# Altium schematic symbol library kmilo17pet-TI_LDO_400_7500.SchLib: 1409 symbols (part 36 of 60)
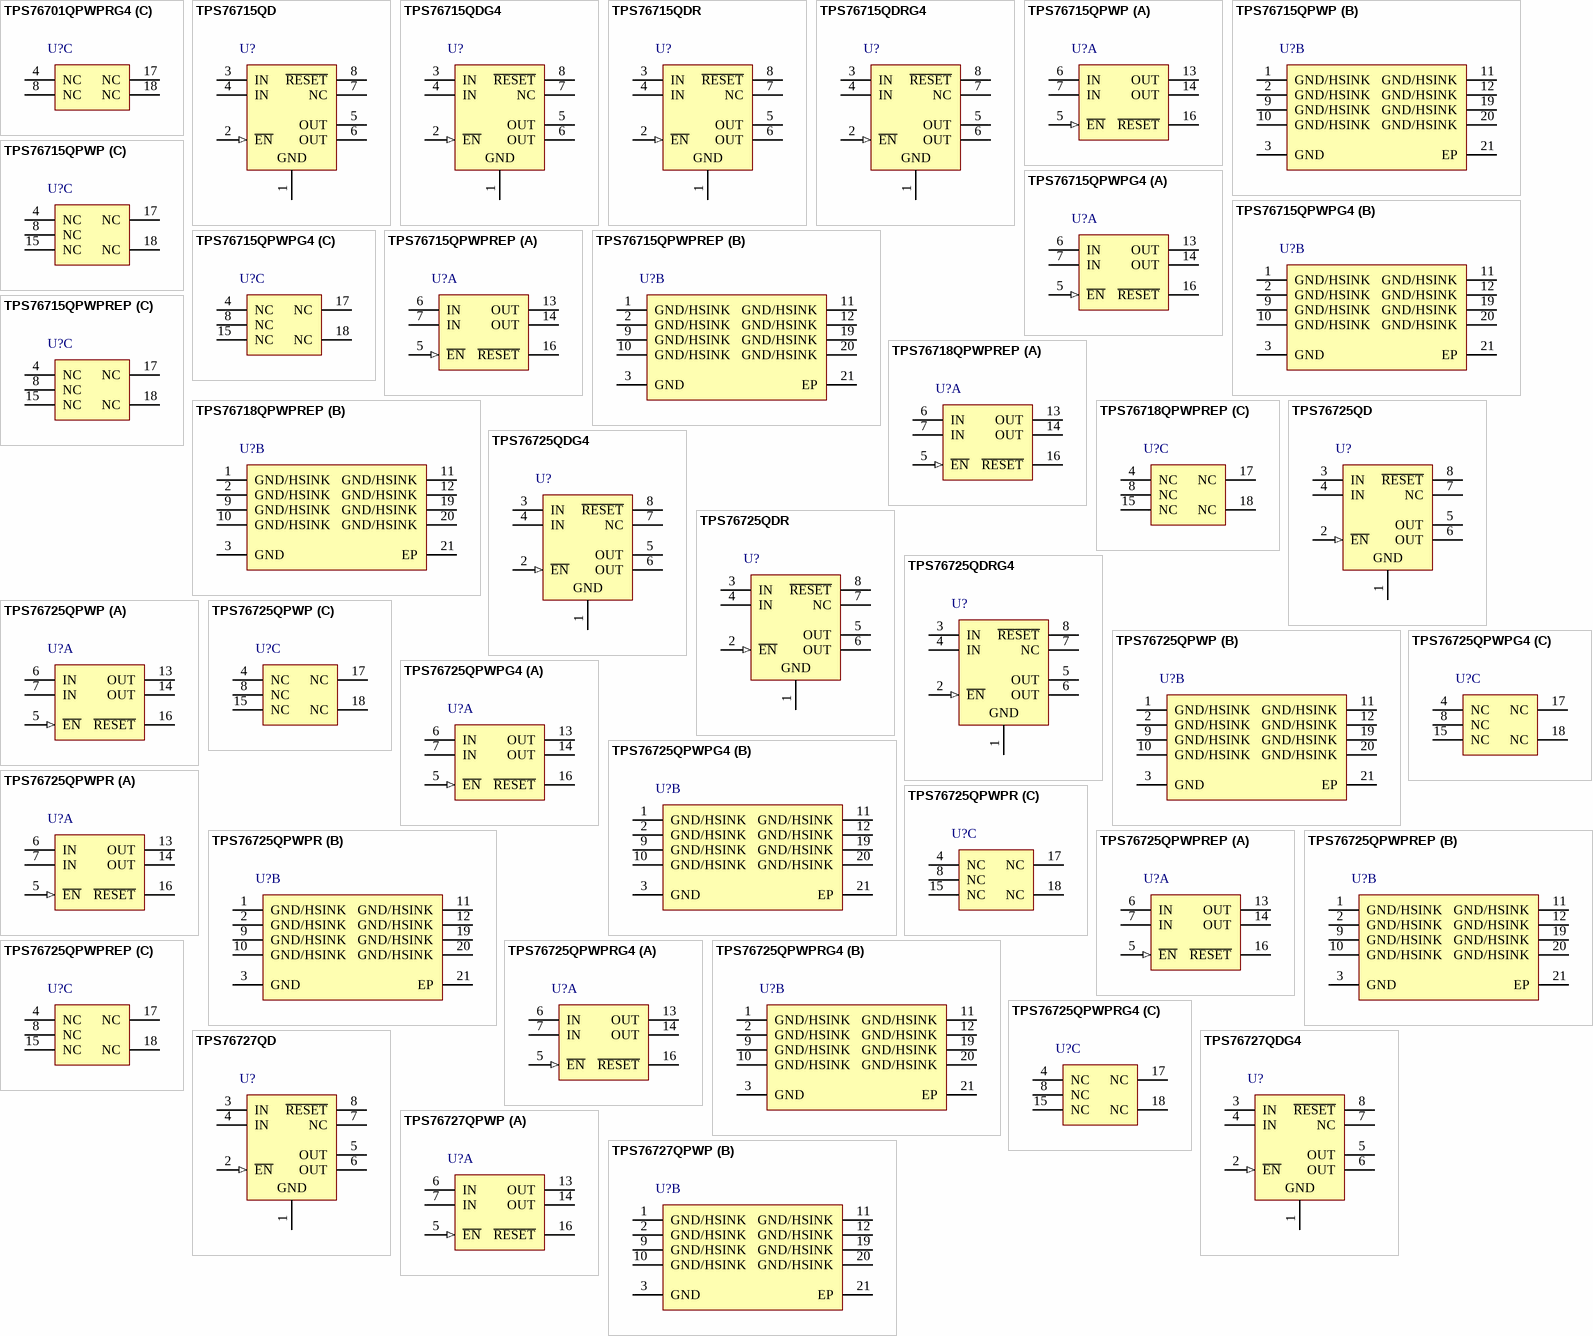
[diagram p85: symbols TPS76701QPWPRG4 to TPS76727QPWP]

## TPS76725QDR
designator U?
Single Output Fast Transient Response LDO, 1 A, Fixed 2.5 V Output, 2.7 to 10 V Input, with Low IQ, 8-pin SOIC (D), -40 to 125 degC, Green (RoHS & no Sb/Br); Manufacturer: Texas Instruments; PartNumber: TPS76725QDR; Accuracy(%): 2; Fixed Output Options(V): 2.5; Iout(Max)(A): 1; Iq(Typ)(mA): 0.08; SubFamily: Single Channel LDO; Vdo(Typ)(mV): 230; Vin(Max)(V): 10; Vin(Min)(V): 2.7; DatasheetVersion: SLVS208I; PackageVersion: 4040047-3/M; PackageReference: D8; PackageDescription: 8-Pin Plastic Small Outline, Body 4.9 x 3.9 mm, Pitch 1.27 mm; Supplier 1: Digi-Key; Supplier Part Number 1: TPS76725QDR-ND; Supplier 2: Newark; Supplier Part Number 2: 77C1082; Supplier 3: Mouser; Supplier Part Number 3: 595-TPS76725QDR; Eco-Plan: Green (RoHS & no Sb/Br); Vout Adj(Max)(V): 2.5; Vout Adj(Min)(V): 2.5; Mounting Technology: Surface Mount; Code_JEDEC: MS-012; ComponentLink1Description: Manufacturer URL; ComponentLink1URL: http://www.ti.com/; ComponentLink2Description: Datasheet; ComponentLink2URL: http://www.ti.com/general/docs/lit/getliterature.tsp?genericPartNumber=TPS76725&fileType=pdf; ComponentLink3Description: Package Specification; ComponentLink3URL: http://www.ti.com/litv/pdf/msoi002j
footprint TI-D8_N (SOIC, 8-Leads, Body 4.9x3.9mm, Pitch 1.27mm, IPC Medium Density)
footprint TI-D8_L (SOIC, 8-Leads, Body 4.9x3.9mm, Pitch 1.27mm, IPC High Density)
footprint TI-D8_M (SOIC, 8-Leads, Body 4.9x3.9mm, Pitch 1.27mm, IPC Low Density)
pins: 1 GND (power) "Regulator ground", 2 ~{EN} (in) "Enable input", 3 IN (power) "Input voltage", 4 IN (power) "Input voltage", 5 OUT (power) "Regulated output voltage", 6 OUT (power) "Regulated output voltage", 7 NC "No internal connection", 8 ~{RESET} (hiz) "R\E\S\E\T\ output"

## TPS76725QDRG4
designator U?
Single Output Fast Transient Response LDO, 1 A, Fixed 2.5 V Output, 2.7 to 10 V Input, with Low IQ, 8-pin SOIC (D), -40 to 125 degC, Green (RoHS & no Sb/Br); Manufacturer: Texas Instruments; PartNumber: TPS76725QDRG4; Accuracy(%): 2; Fixed Output Options(V): 2.5; Iout(Max)(A): 1; Iq(Typ)(mA): 0.08; SubFamily: Single Channel LDO; Vdo(Typ)(mV): 230; Vin(Max)(V): 10; Vin(Min)(V): 2.7; DatasheetVersion: SLVS208I; PackageVersion: 4040047-3/M; PackageReference: D8; PackageDescription: 8-Pin Plastic Small Outline, Body 4.9 x 3.9 mm, Pitch 1.27 mm; Supplier 1: Digi-Key; Supplier Part Number 1: TPS76725QDRG4-ND; Supplier 2: Mouser; Supplier Part Number 2: 595-TPS76725QDRG4; Eco-Plan: Green (RoHS & no Sb/Br); Vout Adj(Max)(V): 2.5; Vout Adj(Min)(V): 2.5; Mounting Technology: Surface Mount; Code_JEDEC: MS-012; ComponentLink1Description: Manufacturer URL; ComponentLink1URL: http://www.ti.com/; ComponentLink2Description: Datasheet; ComponentLink2URL: http://www.ti.com/general/docs/lit/getliterature.tsp?genericPartNumber=TPS76725&fileType=pdf; ComponentLink3Description: Package Specification; ComponentLink3URL: http://www.ti.com/litv/pdf/msoi002j
footprint TI-D8_N (SOIC, 8-Leads, Body 4.9x3.9mm, Pitch 1.27mm, IPC Medium Density)
footprint TI-D8_L (SOIC, 8-Leads, Body 4.9x3.9mm, Pitch 1.27mm, IPC High Density)
footprint TI-D8_M (SOIC, 8-Leads, Body 4.9x3.9mm, Pitch 1.27mm, IPC Low Density)
pins: 1 GND (power) "Regulator ground", 2 ~{EN} (in) "Enable input", 3 IN (power) "Input voltage", 4 IN (power) "Input voltage", 5 OUT (power) "Regulated output voltage", 6 OUT (power) "Regulated output voltage", 7 NC "No internal connection", 8 ~{RESET} (hiz) "R\E\S\E\T\ output"

## TPS76725QPWP
designator U?
Single Output Fast Transient Response LDO, 1 A, Fixed 2.5 V Output, 2.7 to 10 V Input, with Low IQ, 20-pin HTSSOP (PWP), -40 to 125 degC, Green (RoHS & no Sb/Br); Manufacturer: Texas Instruments; PartNumber: TPS76725QPWP; Accuracy(%): 2; Fixed Output Options(V): 2.5; Iout(Max)(A): 1; Iq(Typ)(mA): 0.08; SubFamily: Single Channel LDO; Vdo(Typ)(mV): 230; Vin(Max)(V): 10; Vin(Min)(V): 2.7; DatasheetVersion: SLVS208I; PackageVersion: 4073225-4/I; PackageReference: PWP20-2980X2000TP; PackageDescription: 20-Pin Plastic Small Outline, Body 4.4 x 6.5 mm, Pitch 0.65 mm; Supplier 1: Digi-Key; Supplier Part Number 1: 296-8079-5-ND; Supplier 2: Mouser; Supplier Part Number 2: 595-TPS76725QPWP; Eco-Plan: Green (RoHS & no Sb/Br); Vout Adj(Max)(V): 2.5; Vout Adj(Min)(V): 2.5; Mounting Technology: Surface Mount; Code_JEDEC: MO-153; ComponentLink1Description: Manufacturer URL; ComponentLink1URL: http://www.ti.com/; ComponentLink2Description: Datasheet; ComponentLink2URL: http://www.ti.com/general/docs/lit/getliterature.tsp?genericPartNumber=TPS76725&fileType=pdf; ComponentLink3Description: Package Specification; ComponentLink3URL: http://www.ti.com/litv/pdf/mhts001g
footprint TI-PWP20-2980X2000TP_N (SOP, 20-Leads, Body 6.5x4.4mm, Pitch 0.65mm, Thermal Pad 2.975x2 mm, IPC Medium Density)
footprint TI-PWP20-2980X2000TP_L (SOP, 20-Leads, Body 6.5x4.4mm, Pitch 0.65mm, Thermal Pad 2.975x2 mm, IPC High Density)
footprint TI-PWP20-2980X2000TP_M (SOP, 20-Leads, Body 6.5x4.4mm, Pitch 0.65mm, Thermal Pad 2.975x2 mm, IPC Low Density)
part A pins: 5 ~{EN} (in) "Enable input", 6 IN (power) "Input voltage", 7 IN (power) "Input voltage", 13 OUT (power) "Regulated output voltage", 14 OUT (power) "Regulated output voltage", 16 ~{RESET} (hiz) "R\E\S\E\T\ output."
part B pins: 1 GND/HSINK (power) "Ground/heatsink", 2 GND/HSINK (power) "Ground/heatsink", 3 GND (power) "Regulator ground", 9 GND/HSINK (power) "Ground/heatsink", 10 GND/HSINK (power) "Ground/heatsink", 11 GND/HSINK (power) "Ground/heatsink", 12 GND/HSINK (power) "Ground/heatsink", 19 GND/HSINK (power) "Ground/heatsink", 20 GND/HSINK (power) "Ground/heatsink", 21 EP "Exposed Thermal Pad"
part C pins: 4 NC "No connect", 8 NC "No connect", 15 NC "No connect", 17 NC "No connect", 18 NC "No connect"

## TPS76725QPWPG4
designator U?
Single Output Fast Transient Response LDO, 1 A, Fixed 2.5 V Output, 2.7 to 10 V Input, with Low IQ, 20-pin HTSSOP (PWP), -40 to 125 degC, Green (RoHS & no Sb/Br); Manufacturer: Texas Instruments; PartNumber: TPS76725QPWPG4; Accuracy(%): 2; Fixed Output Options(V): 2.5; Iout(Max)(A): 1; Iq(Typ)(mA): 0.08; SubFamily: Single Channel LDO; Vdo(Typ)(mV): 230; Vin(Max)(V): 10; Vin(Min)(V): 2.7; DatasheetVersion: SLVS208I; PackageVersion: 4073225-4/I; PackageReference: PWP20-2980X2000TP; PackageDescription: 20-Pin Plastic Small Outline, Body 4.4 x 6.5 mm, Pitch 0.65 mm; Supplier 1: Digi-Key; Supplier Part Number 1: TPS76725QPWPG4-ND; Supplier 2: Mouser; Supplier Part Number 2: 595-TPS76725QPWPG4; Eco-Plan: Green (RoHS & no Sb/Br); Vout Adj(Max)(V): 2.5; Vout Adj(Min)(V): 2.5; Mounting Technology: Surface Mount; Code_JEDEC: MO-153; ComponentLink1Description: Manufacturer URL; ComponentLink1URL: http://www.ti.com/; ComponentLink2Description: Datasheet; ComponentLink2URL: http://www.ti.com/general/docs/lit/getliterature.tsp?genericPartNumber=TPS76725&fileType=pdf; ComponentLink3Description: Package Specification; ComponentLink3URL: http://www.ti.com/litv/pdf/mhts001g
footprint TI-PWP20-2980X2000TP_N (SOP, 20-Leads, Body 6.5x4.4mm, Pitch 0.65mm, Thermal Pad 2.975x2 mm, IPC Medium Density)
footprint TI-PWP20-2980X2000TP_L (SOP, 20-Leads, Body 6.5x4.4mm, Pitch 0.65mm, Thermal Pad 2.975x2 mm, IPC High Density)
footprint TI-PWP20-2980X2000TP_M (SOP, 20-Leads, Body 6.5x4.4mm, Pitch 0.65mm, Thermal Pad 2.975x2 mm, IPC Low Density)
part A pins: 5 ~{EN} (in) "Enable input", 6 IN (power) "Input voltage", 7 IN (power) "Input voltage", 13 OUT (power) "Regulated output voltage", 14 OUT (power) "Regulated output voltage", 16 ~{RESET} (hiz) "R\E\S\E\T\ output."
part B pins: 1 GND/HSINK (power) "Ground/heatsink", 2 GND/HSINK (power) "Ground/heatsink", 3 GND (power) "Regulator ground", 9 GND/HSINK (power) "Ground/heatsink", 10 GND/HSINK (power) "Ground/heatsink", 11 GND/HSINK (power) "Ground/heatsink", 12 GND/HSINK (power) "Ground/heatsink", 19 GND/HSINK (power) "Ground/heatsink", 20 GND/HSINK (power) "Ground/heatsink", 21 EP "Exposed Thermal Pad"
part C pins: 4 NC "No connect", 8 NC "No connect", 15 NC "No connect", 17 NC "No connect", 18 NC "No connect"

## TPS76725QPWPR
designator U?
Single Output Fast Transient Response LDO, 1 A, Fixed 2.5 V Output, 2.7 to 10 V Input, with Low IQ, 20-pin HTSSOP (PWP), -40 to 125 degC, Green (RoHS & no Sb/Br); Manufacturer: Texas Instruments; PartNumber: TPS76725QPWPR; Accuracy(%): 2; Fixed Output Options(V): 2.5; Iout(Max)(A): 1; Iq(Typ)(mA): 0.08; SubFamily: Single Channel LDO; Vdo(Typ)(mV): 230; Vin(Max)(V): 10; Vin(Min)(V): 2.7; DatasheetVersion: SLVS208I; PackageVersion: 4073225-4/I; PackageReference: PWP20-2980X2000TP; PackageDescription: 20-Pin Plastic Small Outline, Body 4.4 x 6.5 mm, Pitch 0.65 mm; Supplier 1: Digi-Key; Supplier Part Number 1: TPS76725QPWPR-ND; Supplier 2: Mouser; Supplier Part Number 2: 595-TPS76725QPWPR; Eco-Plan: Green (RoHS & no Sb/Br); Vout Adj(Max)(V): 2.5; Vout Adj(Min)(V): 2.5; Mounting Technology: Surface Mount; Code_JEDEC: MO-153; ComponentLink1Description: Manufacturer URL; ComponentLink1URL: http://www.ti.com/; ComponentLink2Description: Datasheet; ComponentLink2URL: http://www.ti.com/general/docs/lit/getliterature.tsp?genericPartNumber=TPS76725&fileType=pdf; ComponentLink3Description: Package Specification; ComponentLink3URL: http://www.ti.com/litv/pdf/mhts001g
footprint TI-PWP20-2980X2000TP_N (SOP, 20-Leads, Body 6.5x4.4mm, Pitch 0.65mm, Thermal Pad 2.975x2 mm, IPC Medium Density)
footprint TI-PWP20-2980X2000TP_L (SOP, 20-Leads, Body 6.5x4.4mm, Pitch 0.65mm, Thermal Pad 2.975x2 mm, IPC High Density)
footprint TI-PWP20-2980X2000TP_M (SOP, 20-Leads, Body 6.5x4.4mm, Pitch 0.65mm, Thermal Pad 2.975x2 mm, IPC Low Density)
part A pins: 5 ~{EN} (in) "Enable input", 6 IN (power) "Input voltage", 7 IN (power) "Input voltage", 13 OUT (power) "Regulated output voltage", 14 OUT (power) "Regulated output voltage", 16 ~{RESET} (hiz) "R\E\S\E\T\ output."
part B pins: 1 GND/HSINK (power) "Ground/heatsink", 2 GND/HSINK (power) "Ground/heatsink", 3 GND (power) "Regulator ground", 9 GND/HSINK (power) "Ground/heatsink", 10 GND/HSINK (power) "Ground/heatsink", 11 GND/HSINK (power) "Ground/heatsink", 12 GND/HSINK (power) "Ground/heatsink", 19 GND/HSINK (power) "Ground/heatsink", 20 GND/HSINK (power) "Ground/heatsink", 21 EP "Exposed Thermal Pad"
part C pins: 4 NC "No connect", 8 NC "No connect", 15 NC "No connect", 17 NC "No connect", 18 NC "No connect"

## TPS76725QPWPREP
designator U?
Single Output Fast Transient Response LDO, 1 A, Fixed 2.5 V Output, 2.7 to 10 V Input, 20-pin HTSSOP (PWP), -40 to 125 degC, Green (RoHS & no Sb/Br); Manufacturer: Texas Instruments; PartNumber: TPS76725QPWPREP; Accuracy(%): 2; Fixed Output Options(V): 2.5; Iout(Max)(A): 1; Iq(Typ)(mA): 0.08; SubFamily: Single Channel LDO; Vdo(Typ)(mV): 230; Vin(Max)(V): 10; Vin(Min)(V): 2.7; DatasheetVersion: SGLS157; PackageVersion: 4073225-4/I; PackageReference: PWP20-2980X2000TP; PackageDescription: 20-Pin Plastic Small Outline, Body 4.4 x 6.5 mm, Pitch 0.65 mm; Supplier 1: Digi-Key; Supplier Part Number 1: 296-18157-2-ND; Supplier 2: Digi-Key; Supplier Part Number 2: 296-18157-1-ND; Supplier 3: Digi-Key; Supplier Part Number 3: 296-18157-6-ND; Supplier 4: Newark; Supplier Part Number 4: 46M1178; Supplier 5: Mouser; Supplier Part Number 5: 595-TPS76725QPWPREP; Eco-Plan: Green (RoHS & no Sb/Br); Vout Adj(Max)(V): 2.5; Vout Adj(Min)(V): 2.5; Mounting Technology: Surface Mount; Code_JEDEC: MO-153; ComponentLink1Description: Manufacturer URL; ComponentLink1URL: http://www.ti.com/; ComponentLink2Description: Datasheet; ComponentLink2URL: http://www.ti.com/general/docs/lit/getliterature.tsp?genericPartNumber=TPS76725-EP&fileType=pdf; ComponentLink3Description: Package Specification; ComponentLink3URL: http://www.ti.com/litv/pdf/mhts001g
footprint TI-PWP20-2980X2000TP_N (SOP, 20-Leads, Body 6.5x4.4mm, Pitch 0.65mm, Thermal Pad 2.975x2 mm, IPC Medium Density)
footprint TI-PWP20-2980X2000TP_L (SOP, 20-Leads, Body 6.5x4.4mm, Pitch 0.65mm, Thermal Pad 2.975x2 mm, IPC High Density)
footprint TI-PWP20-2980X2000TP_M (SOP, 20-Leads, Body 6.5x4.4mm, Pitch 0.65mm, Thermal Pad 2.975x2 mm, IPC Low Density)
part A pins: 5 ~{EN} (in) "Enable input", 6 IN (power) "Input voltage", 7 IN (power) "Input voltage", 13 OUT (power) "Regulated output voltage", 14 OUT (power) "Regulated output voltage", 16 ~{RESET} (hiz) "R\E\S\E\T\ output."
part B pins: 1 GND/HSINK (power) "Ground/heatsink", 2 GND/HSINK (power) "Ground/heatsink", 3 GND (power) "Regulator ground", 9 GND/HSINK (power) "Ground/heatsink", 10 GND/HSINK (power) "Ground/heatsink", 11 GND/HSINK (power) "Ground/heatsink", 12 GND/HSINK (power) "Ground/heatsink", 19 GND/HSINK (power) "Ground/heatsink", 20 GND/HSINK (power) "Ground/heatsink", 21 EP "Exposed Thermal Pad"
part C pins: 4 NC "No connect", 8 NC "No connect", 15 NC "No connect", 17 NC "No connect", 18 NC "No connect"

## TPS76725QPWPRG4
designator U?
Single Output Fast Transient Response LDO, 1 A, Fixed 2.5 V Output, 2.7 to 10 V Input, with Low IQ, 20-pin HTSSOP (PWP), -40 to 125 degC, Green (RoHS & no Sb/Br); Manufacturer: Texas Instruments; PartNumber: TPS76725QPWPRG4; Accuracy(%): 2; Fixed Output Options(V): 2.5; Iout(Max)(A): 1; Iq(Typ)(mA): 0.08; SubFamily: Single Channel LDO; Vdo(Typ)(mV): 230; Vin(Max)(V): 10; Vin(Min)(V): 2.7; DatasheetVersion: SLVS208I; PackageVersion: 4073225-4/I; PackageReference: PWP20-2980X2000TP; PackageDescription: 20-Pin Plastic Small Outline, Body 4.4 x 6.5 mm, Pitch 0.65 mm; Supplier 1: Digi-Key; Supplier Part Number 1: TPS76725QPWPRG4-ND; Supplier 2: Mouser; Supplier Part Number 2: 595-TPS76725QPWPRG4; Eco-Plan: Green (RoHS & no Sb/Br); Vout Adj(Max)(V): 2.5; Vout Adj(Min)(V): 2.5; Mounting Technology: Surface Mount; Code_JEDEC: MO-153; ComponentLink1Description: Manufacturer URL; ComponentLink1URL: http://www.ti.com/; ComponentLink2Description: Datasheet; ComponentLink2URL: http://www.ti.com/general/docs/lit/getliterature.tsp?genericPartNumber=TPS76725&fileType=pdf; ComponentLink3Description: Package Specification; ComponentLink3URL: http://www.ti.com/litv/pdf/mhts001g
footprint TI-PWP20-2980X2000TP_N (SOP, 20-Leads, Body 6.5x4.4mm, Pitch 0.65mm, Thermal Pad 2.975x2 mm, IPC Medium Density)
footprint TI-PWP20-2980X2000TP_L (SOP, 20-Leads, Body 6.5x4.4mm, Pitch 0.65mm, Thermal Pad 2.975x2 mm, IPC High Density)
footprint TI-PWP20-2980X2000TP_M (SOP, 20-Leads, Body 6.5x4.4mm, Pitch 0.65mm, Thermal Pad 2.975x2 mm, IPC Low Density)
part A pins: 5 ~{EN} (in) "Enable input", 6 IN (power) "Input voltage", 7 IN (power) "Input voltage", 13 OUT (power) "Regulated output voltage", 14 OUT (power) "Regulated output voltage", 16 ~{RESET} (hiz) "R\E\S\E\T\ output."
part B pins: 1 GND/HSINK (power) "Ground/heatsink", 2 GND/HSINK (power) "Ground/heatsink", 3 GND (power) "Regulator ground", 9 GND/HSINK (power) "Ground/heatsink", 10 GND/HSINK (power) "Ground/heatsink", 11 GND/HSINK (power) "Ground/heatsink", 12 GND/HSINK (power) "Ground/heatsink", 19 GND/HSINK (power) "Ground/heatsink", 20 GND/HSINK (power) "Ground/heatsink", 21 EP "Exposed Thermal Pad"
part C pins: 4 NC "No connect", 8 NC "No connect", 15 NC "No connect", 17 NC "No connect", 18 NC "No connect"

## TPS76727QD
designator U?
Single Output Fast Transient Response LDO, 1 A, Fixed 2.7 V Output, 2.7 to 10 V Input, with Low IQ, 8-pin SOIC (D), -40 to 125 degC, Green (RoHS & no Sb/Br); Manufacturer: Texas Instruments; PartNumber: TPS76727QD; Accuracy(%): 2; Fixed Output Options(V): 2.7; Iout(Max)(A): 1; Iq(Typ)(mA): 0.08; SubFamily: Single Channel LDO; Vdo(Typ)(mV): 230; Vin(Max)(V): 10; DatasheetVersion: SLVS208I; PackageVersion: 4040047-3/M; PackageReference: D8; PackageDescription: 8-Pin Plastic Small Outline, Body 4.9 x 3.9 mm, Pitch 1.27 mm; Supplier 1: Digi-Key; Supplier Part Number 1: 296-2735-5-ND; Supplier 2: Mouser; Supplier Part Number 2: 595-TPS76727QD; Eco-Plan: Green (RoHS & no Sb/Br); Vin(Min)(V): 2.7; Vout Adj(Max)(V): 2.7; Vout Adj(Min)(V): 2.7; Mounting Technology: Surface Mount; Code_JEDEC: MS-012; ComponentLink1Description: Manufacturer URL; ComponentLink1URL: http://www.ti.com/; ComponentLink2Description: Datasheet; ComponentLink2URL: http://www.ti.com/general/docs/lit/getliterature.tsp?genericPartNumber=TPS76727&fileType=pdf; ComponentLink3Description: Package Specification; ComponentLink3URL: http://www.ti.com/litv/pdf/msoi002j
footprint TI-D8_N (SOIC, 8-Leads, Body 4.9x3.9mm, Pitch 1.27mm, IPC Medium Density)
footprint TI-D8_L (SOIC, 8-Leads, Body 4.9x3.9mm, Pitch 1.27mm, IPC High Density)
footprint TI-D8_M (SOIC, 8-Leads, Body 4.9x3.9mm, Pitch 1.27mm, IPC Low Density)
pins: 1 GND (power) "Regulator ground", 2 ~{EN} (in) "Enable input", 3 IN (power) "Input voltage", 4 IN (power) "Input voltage", 5 OUT (power) "Regulated output voltage", 6 OUT (power) "Regulated output voltage", 7 NC "No internal connection", 8 ~{RESET} (hiz) "R\E\S\E\T\ output"

## TPS76727QDG4
designator U?
Single Output Fast Transient Response LDO, 1 A, Fixed 2.7 V Output, 2.7 to 10 V Input, with Low IQ, 8-pin SOIC (D), -40 to 125 degC, Green (RoHS & no Sb/Br); Manufacturer: Texas Instruments; PartNumber: TPS76727QDG4; Accuracy(%): 2; Fixed Output Options(V): 2.7; Iout(Max)(A): 1; Iq(Typ)(mA): 0.08; SubFamily: Single Channel LDO; Vdo(Typ)(mV): 230; Vin(Max)(V): 10; DatasheetVersion: SLVS208I; PackageVersion: 4040047-3/M; PackageReference: D8; PackageDescription: 8-Pin Plastic Small Outline, Body 4.9 x 3.9 mm, Pitch 1.27 mm; Supplier 1: Digi-Key; Supplier Part Number 1: TPS76727QDG4-ND; Supplier 2: Mouser; Supplier Part Number 2: 595-TPS76727QDG4; Eco-Plan: Green (RoHS & no Sb/Br); Vin(Min)(V): 2.7; Vout Adj(Max)(V): 2.7; Vout Adj(Min)(V): 2.7; Mounting Technology: Surface Mount; Code_JEDEC: MS-012; ComponentLink1Description: Manufacturer URL; ComponentLink1URL: http://www.ti.com/; ComponentLink2Description: Datasheet; ComponentLink2URL: http://www.ti.com/general/docs/lit/getliterature.tsp?genericPartNumber=TPS76727&fileType=pdf; ComponentLink3Description: Package Specification; ComponentLink3URL: http://www.ti.com/litv/pdf/msoi002j
footprint TI-D8_N (SOIC, 8-Leads, Body 4.9x3.9mm, Pitch 1.27mm, IPC Medium Density)
footprint TI-D8_L (SOIC, 8-Leads, Body 4.9x3.9mm, Pitch 1.27mm, IPC High Density)
footprint TI-D8_M (SOIC, 8-Leads, Body 4.9x3.9mm, Pitch 1.27mm, IPC Low Density)
pins: 1 GND (power) "Regulator ground", 2 ~{EN} (in) "Enable input", 3 IN (power) "Input voltage", 4 IN (power) "Input voltage", 5 OUT (power) "Regulated output voltage", 6 OUT (power) "Regulated output voltage", 7 NC "No internal connection", 8 ~{RESET} (hiz) "R\E\S\E\T\ output"

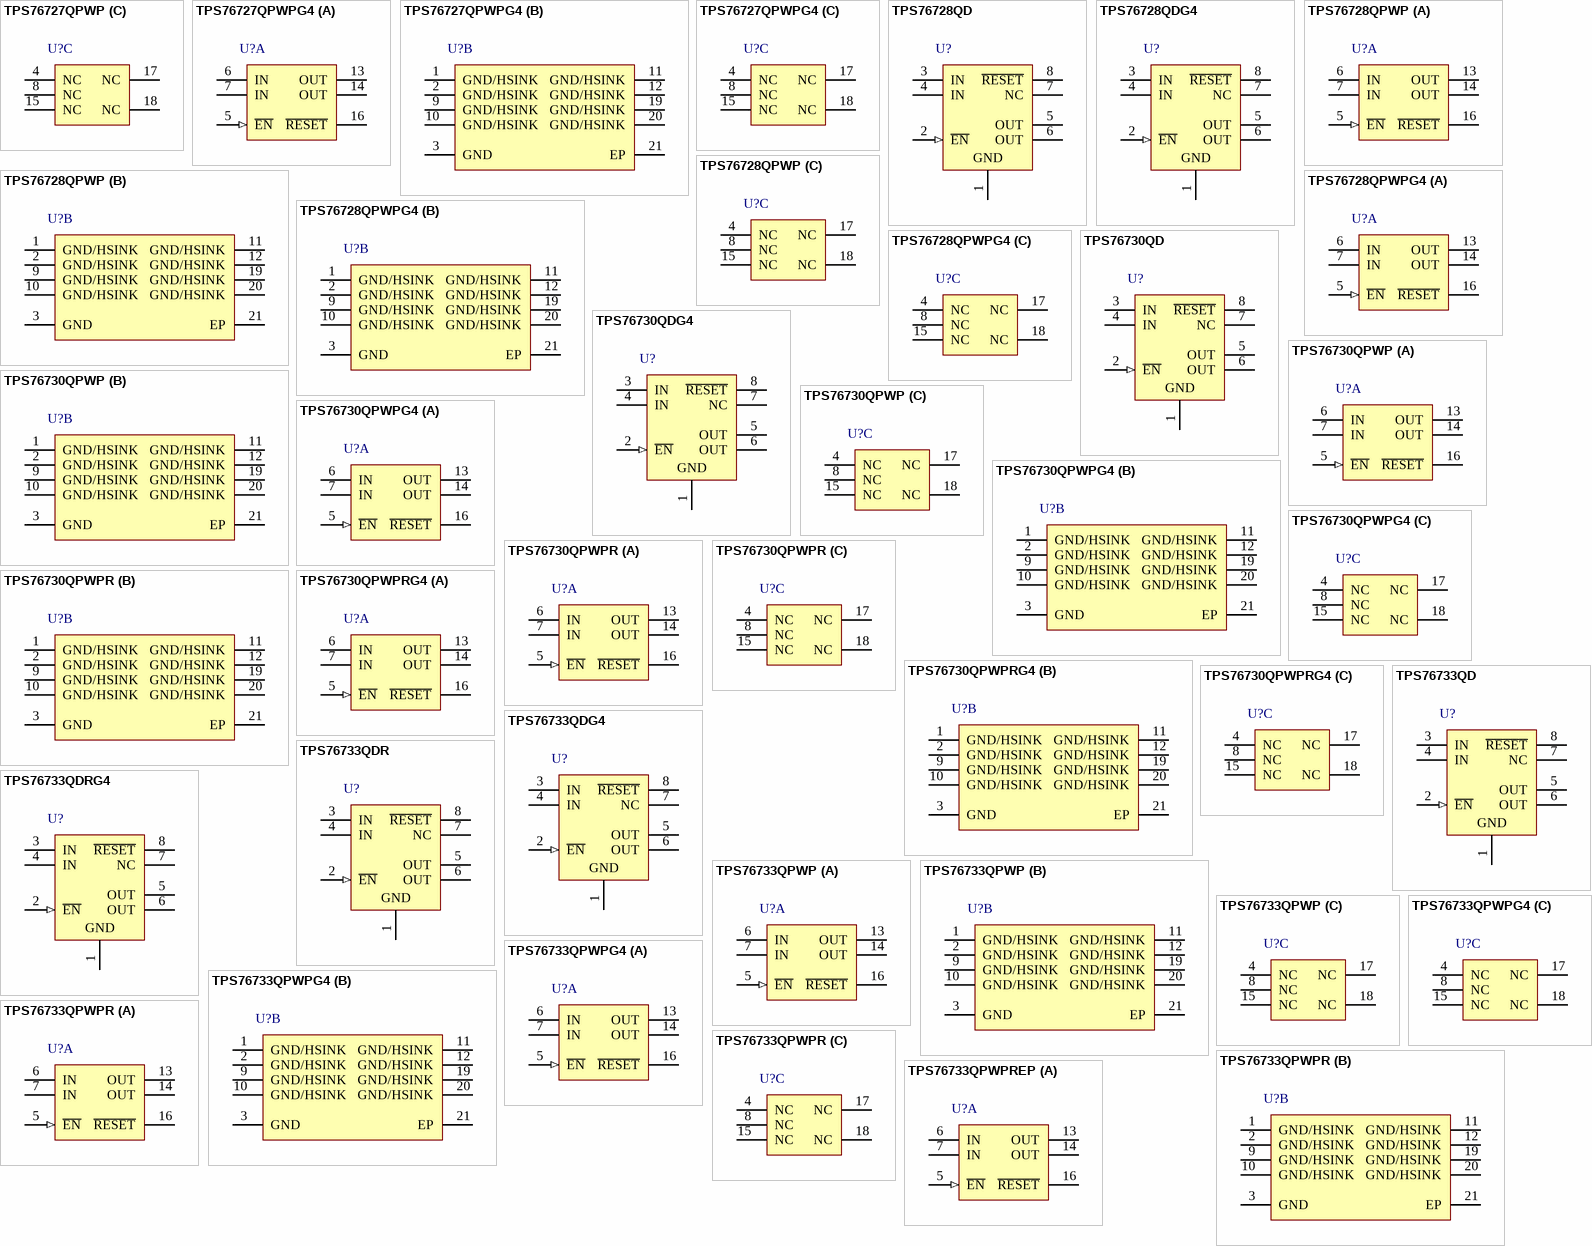
[diagram p29: symbols TPS76727QPWP to TPS76733QPWPREP]

## TPS76727QPWP
designator U?
Single Output Fast Transient Response LDO, 1 A, Fixed 2.7 V Output, 2.7 to 10 V Input, with Low IQ, 20-pin HTSSOP (PWP), -40 to 125 degC, Green (RoHS & no Sb/Br); Manufacturer: Texas Instruments; PartNumber: TPS76727QPWP; Accuracy(%): 2; Fixed Output Options(V): 2.7; Iout(Max)(A): 1; Iq(Typ)(mA): 0.08; SubFamily: Single Channel LDO; Vdo(Typ)(mV): 230; Vin(Max)(V): 10; DatasheetVersion: SLVS208I; PackageVersion: 4073225-4/I; PackageReference: PWP20-2980X2000TP; PackageDescription: 20-Pin Plastic Small Outline, Body 4.4 x 6.5 mm, Pitch 0.65 mm; Supplier 1: Digi-Key; Supplier Part Number 1: 296-8080-5-ND; Supplier 2: Mouser; Supplier Part Number 2: 595-TPS76727QPWP; Eco-Plan: Green (RoHS & no Sb/Br); Vin(Min)(V): 2.7; Vout Adj(Max)(V): 2.7; Vout Adj(Min)(V): 2.7; Mounting Technology: Surface Mount; Code_JEDEC: MO-153; ComponentLink1Description: Manufacturer URL; ComponentLink1URL: http://www.ti.com/; ComponentLink2Description: Datasheet; ComponentLink2URL: http://www.ti.com/general/docs/lit/getliterature.tsp?genericPartNumber=TPS76727&fileType=pdf; ComponentLink3Description: Package Specification; ComponentLink3URL: http://www.ti.com/litv/pdf/mhts001g
footprint TI-PWP20-2980X2000TP_N (SOP, 20-Leads, Body 6.5x4.4mm, Pitch 0.65mm, Thermal Pad 2.975x2 mm, IPC Medium Density)
footprint TI-PWP20-2980X2000TP_L (SOP, 20-Leads, Body 6.5x4.4mm, Pitch 0.65mm, Thermal Pad 2.975x2 mm, IPC High Density)
footprint TI-PWP20-2980X2000TP_M (SOP, 20-Leads, Body 6.5x4.4mm, Pitch 0.65mm, Thermal Pad 2.975x2 mm, IPC Low Density)
part A pins: 5 ~{EN} (in) "Enable input", 6 IN (power) "Input voltage", 7 IN (power) "Input voltage", 13 OUT (power) "Regulated output voltage", 14 OUT (power) "Regulated output voltage", 16 ~{RESET} (hiz) "R\E\S\E\T\ output."
part B pins: 1 GND/HSINK (power) "Ground/heatsink", 2 GND/HSINK (power) "Ground/heatsink", 3 GND (power) "Regulator ground", 9 GND/HSINK (power) "Ground/heatsink", 10 GND/HSINK (power) "Ground/heatsink", 11 GND/HSINK (power) "Ground/heatsink", 12 GND/HSINK (power) "Ground/heatsink", 19 GND/HSINK (power) "Ground/heatsink", 20 GND/HSINK (power) "Ground/heatsink", 21 EP "Exposed Thermal Pad"
part C pins: 4 NC "No connect", 8 NC "No connect", 15 NC "No connect", 17 NC "No connect", 18 NC "No connect"

## TPS76727QPWPG4
designator U?
Single Output Fast Transient Response LDO, 1 A, Fixed 2.7 V Output, 2.7 to 10 V Input, with Low IQ, 20-pin HTSSOP (PWP), -40 to 125 degC, Green (RoHS & no Sb/Br); Manufacturer: Texas Instruments; PartNumber: TPS76727QPWPG4; Accuracy(%): 2; Fixed Output Options(V): 2.7; Iout(Max)(A): 1; Iq(Typ)(mA): 0.08; SubFamily: Single Channel LDO; Vdo(Typ)(mV): 230; Vin(Max)(V): 10; DatasheetVersion: SLVS208I; PackageVersion: 4073225-4/I; PackageReference: PWP20-2980X2000TP; PackageDescription: 20-Pin Plastic Small Outline, Body 4.4 x 6.5 mm, Pitch 0.65 mm; Supplier 1: Digi-Key; Supplier Part Number 1: TPS76727QPWPG4-ND; Supplier 2: Mouser; Supplier Part Number 2: 595-TPS76727QPWPG4; Eco-Plan: Green (RoHS & no Sb/Br); Vin(Min)(V): 2.7; Vout Adj(Max)(V): 2.7; Vout Adj(Min)(V): 2.7; Mounting Technology: Surface Mount; Code_JEDEC: MO-153; ComponentLink1Description: Manufacturer URL; ComponentLink1URL: http://www.ti.com/; ComponentLink2Description: Datasheet; ComponentLink2URL: http://www.ti.com/general/docs/lit/getliterature.tsp?genericPartNumber=TPS76727&fileType=pdf; ComponentLink3Description: Package Specification; ComponentLink3URL: http://www.ti.com/litv/pdf/mhts001g
footprint TI-PWP20-2980X2000TP_N (SOP, 20-Leads, Body 6.5x4.4mm, Pitch 0.65mm, Thermal Pad 2.975x2 mm, IPC Medium Density)
footprint TI-PWP20-2980X2000TP_L (SOP, 20-Leads, Body 6.5x4.4mm, Pitch 0.65mm, Thermal Pad 2.975x2 mm, IPC High Density)
footprint TI-PWP20-2980X2000TP_M (SOP, 20-Leads, Body 6.5x4.4mm, Pitch 0.65mm, Thermal Pad 2.975x2 mm, IPC Low Density)
part A pins: 5 ~{EN} (in) "Enable input", 6 IN (power) "Input voltage", 7 IN (power) "Input voltage", 13 OUT (power) "Regulated output voltage", 14 OUT (power) "Regulated output voltage", 16 ~{RESET} (hiz) "R\E\S\E\T\ output."
part B pins: 1 GND/HSINK (power) "Ground/heatsink", 2 GND/HSINK (power) "Ground/heatsink", 3 GND (power) "Regulator ground", 9 GND/HSINK (power) "Ground/heatsink", 10 GND/HSINK (power) "Ground/heatsink", 11 GND/HSINK (power) "Ground/heatsink", 12 GND/HSINK (power) "Ground/heatsink", 19 GND/HSINK (power) "Ground/heatsink", 20 GND/HSINK (power) "Ground/heatsink", 21 EP "Exposed Thermal Pad"
part C pins: 4 NC "No connect", 8 NC "No connect", 15 NC "No connect", 17 NC "No connect", 18 NC "No connect"

## TPS76728QD
designator U?
Single Output Fast Transient Response LDO, 1 A, Fixed 2.8 V Output, 2.7 to 10 V Input, with Low IQ, 8-pin SOIC (D), -40 to 125 degC, Green (RoHS & no Sb/Br); Manufacturer: Texas Instruments; PartNumber: TPS76728QD; Accuracy(%): 2; Fixed Output Options(V): 2.8; Iout(Max)(A): 1; Iq(Typ)(mA): 0.08; Rating: Catalog; SubFamily: Single Channel LDO; Vdo(Typ)(mV): 500; Vin(Max)(V): 10; Vin(Min)(V): 2.7; DatasheetVersion: SLVS208I; PackageVersion: 4040047-3/M; PackageReference: D8; PackageDescription: 8-Pin Plastic Small Outline, Body 4.9 x 3.9 mm, Pitch 1.27 mm; Supplier 1: Digi-Key; Supplier Part Number 1: 296-2736-5-ND; Supplier 2: Mouser; Supplier Part Number 2: 595-TPS76728QD; Eco-Plan: Green (RoHS & no Sb/Br); Vout Adj(Max)(V): 2.8; Vout Adj(Min)(V): 2.8; Mounting Technology: Surface Mount; Code_JEDEC: MS-012; ComponentLink1Description: Manufacturer URL; ComponentLink1URL: http://www.ti.com/; ComponentLink2Description: Datasheet; ComponentLink2URL: http://www.ti.com/general/docs/lit/getliterature.tsp?genericPartNumber=TPS76728&fileType=pdf; ComponentLink3Description: Package Specification; ComponentLink3URL: http://www.ti.com/litv/pdf/msoi002j; ComponentLink4Description: URL Link1; ComponentLink4URL: Samples URL:http://www.ti.com/product/tps76728#samples
footprint TI-D8_N (SOIC, 8-Leads, Body 4.9x3.9mm, Pitch 1.27mm, IPC Medium Density)
footprint TI-D8_L (SOIC, 8-Leads, Body 4.9x3.9mm, Pitch 1.27mm, IPC High Density)
footprint TI-D8_M (SOIC, 8-Leads, Body 4.9x3.9mm, Pitch 1.27mm, IPC Low Density)
pins: 1 GND (power) "Regulator ground", 2 ~{EN} (in) "Enable input", 3 IN (power) "Input voltage", 4 IN (power) "Input voltage", 5 OUT (power) "Regulated output voltage", 6 OUT (power) "Regulated output voltage", 7 NC "No internal connection", 8 ~{RESET} (hiz) "R\E\S\E\T\ output"

## TPS76728QDG4
designator U?
Single Output Fast Transient Response LDO, 1 A, Fixed 2.8 V Output, 2.7 to 10 V Input, with Low IQ, 8-pin SOIC (D), -40 to 125 degC, Green (RoHS & no Sb/Br); Manufacturer: Texas Instruments; PartNumber: TPS76728QDG4; Accuracy(%): 2; Fixed Output Options(V): 2.8; Iout(Max)(A): 1; Iq(Typ)(mA): 0.08; Rating: Catalog; SubFamily: Single Channel LDO; Vdo(Typ)(mV): 500; Vin(Max)(V): 10; Vin(Min)(V): 2.7; DatasheetVersion: SLVS208I; PackageVersion: 4040047-3/M; PackageReference: D8; PackageDescription: 8-Pin Plastic Small Outline, Body 4.9 x 3.9 mm, Pitch 1.27 mm; Supplier 1: Digi-Key; Supplier Part Number 1: TPS76728QDG4-ND; Supplier 2: Mouser; Supplier Part Number 2: 595-TPS76728QDG4; Eco-Plan: Green (RoHS & no Sb/Br); Vout Adj(Max)(V): 2.8; Vout Adj(Min)(V): 2.8; Mounting Technology: Surface Mount; Code_JEDEC: MS-012; ComponentLink1Description: Manufacturer URL; ComponentLink1URL: http://www.ti.com/; ComponentLink2Description: Datasheet; ComponentLink2URL: http://www.ti.com/general/docs/lit/getliterature.tsp?genericPartNumber=TPS76728&fileType=pdf; ComponentLink3Description: Package Specification; ComponentLink3URL: http://www.ti.com/litv/pdf/msoi002j; ComponentLink4Description: URL Link1; ComponentLink4URL: Samples URL:http://www.ti.com/product/tps76728#samples
footprint TI-D8_N (SOIC, 8-Leads, Body 4.9x3.9mm, Pitch 1.27mm, IPC Medium Density)
footprint TI-D8_L (SOIC, 8-Leads, Body 4.9x3.9mm, Pitch 1.27mm, IPC High Density)
footprint TI-D8_M (SOIC, 8-Leads, Body 4.9x3.9mm, Pitch 1.27mm, IPC Low Density)
pins: 1 GND (power) "Regulator ground", 2 ~{EN} (in) "Enable input", 3 IN (power) "Input voltage", 4 IN (power) "Input voltage", 5 OUT (power) "Regulated output voltage", 6 OUT (power) "Regulated output voltage", 7 NC "No internal connection", 8 ~{RESET} (hiz) "R\E\S\E\T\ output"

## TPS76728QPWP
designator U?
Single Output Fast Transient Response LDO, 1 A, Fixed 2.8 V Output, 2.7 to 10 V Input, with Low IQ, 20-pin HTSSOP (PWP), -40 to 125 degC, Green (RoHS & no Sb/Br); Manufacturer: Texas Instruments; PartNumber: TPS76728QPWP; Accuracy(%): 2; Fixed Output Options(V): 2.8; Iout(Max)(A): 1; Iq(Typ)(mA): 0.08; Rating: Catalog; SubFamily: Single Channel LDO; Vdo(Typ)(mV): 500; Vin(Max)(V): 10; Vin(Min)(V): 2.7; DatasheetVersion: SLVS208I; PackageVersion: 4073225-4/I; PackageReference: PWP20-2980X2000TP; PackageDescription: 20-Pin Plastic Small Outline, Body 4.4 x 6.5 mm, Pitch 0.65 mm; Supplier 1: Digi-Key; Supplier Part Number 1: 296-8081-5-ND; Supplier 2: Mouser; Supplier Part Number 2: 595-TPS76728QPWP; Eco-Plan: Green (RoHS & no Sb/Br); Vout Adj(Max)(V): 2.8; Vout Adj(Min)(V): 2.8; Mounting Technology: Surface Mount; Code_JEDEC: MO-153; ComponentLink1Description: Manufacturer URL; ComponentLink1URL: http://www.ti.com/; ComponentLink2Description: Datasheet; ComponentLink2URL: http://www.ti.com/general/docs/lit/getliterature.tsp?genericPartNumber=TPS76728&fileType=pdf; ComponentLink3Description: Package Specification; ComponentLink3URL: http://www.ti.com/litv/pdf/mhts001g; ComponentLink4Description: URL Link1; ComponentLink4URL: Samples URL:http://www.ti.com/product/tps76728#samples
footprint TI-PWP20-2980X2000TP_N (SOP, 20-Leads, Body 6.5x4.4mm, Pitch 0.65mm, Thermal Pad 2.975x2 mm, IPC Medium Density)
footprint TI-PWP20-2980X2000TP_L (SOP, 20-Leads, Body 6.5x4.4mm, Pitch 0.65mm, Thermal Pad 2.975x2 mm, IPC High Density)
footprint TI-PWP20-2980X2000TP_M (SOP, 20-Leads, Body 6.5x4.4mm, Pitch 0.65mm, Thermal Pad 2.975x2 mm, IPC Low Density)
part A pins: 5 ~{EN} (in) "Enable input", 6 IN (power) "Input voltage", 7 IN (power) "Input voltage", 13 OUT (power) "Regulated output voltage", 14 OUT (power) "Regulated output voltage", 16 ~{RESET} (hiz) "R\E\S\E\T\ output."
part B pins: 1 GND/HSINK (power) "Ground/heatsink", 2 GND/HSINK (power) "Ground/heatsink", 3 GND (power) "Regulator ground", 9 GND/HSINK (power) "Ground/heatsink", 10 GND/HSINK (power) "Ground/heatsink", 11 GND/HSINK (power) "Ground/heatsink", 12 GND/HSINK (power) "Ground/heatsink", 19 GND/HSINK (power) "Ground/heatsink", 20 GND/HSINK (power) "Ground/heatsink", 21 EP "Exposed Thermal Pad"
part C pins: 4 NC "No connect", 8 NC "No connect", 15 NC "No connect", 17 NC "No connect", 18 NC "No connect"

## TPS76728QPWPG4
designator U?
Single Output Fast Transient Response LDO, 1 A, Fixed 2.8 V Output, 2.7 to 10 V Input, with Low IQ, 20-pin HTSSOP (PWP), -40 to 125 degC, Green (RoHS & no Sb/Br); Manufacturer: Texas Instruments; PartNumber: TPS76728QPWPG4; Accuracy(%): 2; Fixed Output Options(V): 2.8; Iout(Max)(A): 1; Iq(Typ)(mA): 0.08; Rating: Catalog; SubFamily: Single Channel LDO; Vdo(Typ)(mV): 500; Vin(Max)(V): 10; Vin(Min)(V): 2.7; DatasheetVersion: SLVS208I; PackageVersion: 4073225-4/I; PackageReference: PWP20-2980X2000TP; PackageDescription: 20-Pin Plastic Small Outline, Body 4.4 x 6.5 mm, Pitch 0.65 mm; Supplier 1: Digi-Key; Supplier Part Number 1: TPS76728QPWPG4-ND; Supplier 2: Mouser; Supplier Part Number 2: 595-TPS76728QPWPG4; Eco-Plan: Green (RoHS & no Sb/Br); Vout Adj(Max)(V): 2.8; Vout Adj(Min)(V): 2.8; Mounting Technology: Surface Mount; Code_JEDEC: MO-153; ComponentLink1Description: Manufacturer URL; ComponentLink1URL: http://www.ti.com/; ComponentLink2Description: Datasheet; ComponentLink2URL: http://www.ti.com/general/docs/lit/getliterature.tsp?genericPartNumber=TPS76728&fileType=pdf; ComponentLink3Description: Package Specification; ComponentLink3URL: http://www.ti.com/litv/pdf/mhts001g; ComponentLink4Description: URL Link1; ComponentLink4URL: Samples URL:http://www.ti.com/product/tps76728#samples
footprint TI-PWP20-2980X2000TP_N (SOP, 20-Leads, Body 6.5x4.4mm, Pitch 0.65mm, Thermal Pad 2.975x2 mm, IPC Medium Density)
footprint TI-PWP20-2980X2000TP_L (SOP, 20-Leads, Body 6.5x4.4mm, Pitch 0.65mm, Thermal Pad 2.975x2 mm, IPC High Density)
footprint TI-PWP20-2980X2000TP_M (SOP, 20-Leads, Body 6.5x4.4mm, Pitch 0.65mm, Thermal Pad 2.975x2 mm, IPC Low Density)
part A pins: 5 ~{EN} (in) "Enable input", 6 IN (power) "Input voltage", 7 IN (power) "Input voltage", 13 OUT (power) "Regulated output voltage", 14 OUT (power) "Regulated output voltage", 16 ~{RESET} (hiz) "R\E\S\E\T\ output."
part B pins: 1 GND/HSINK (power) "Ground/heatsink", 2 GND/HSINK (power) "Ground/heatsink", 3 GND (power) "Regulator ground", 9 GND/HSINK (power) "Ground/heatsink", 10 GND/HSINK (power) "Ground/heatsink", 11 GND/HSINK (power) "Ground/heatsink", 12 GND/HSINK (power) "Ground/heatsink", 19 GND/HSINK (power) "Ground/heatsink", 20 GND/HSINK (power) "Ground/heatsink", 21 EP "Exposed Thermal Pad"
part C pins: 4 NC "No connect", 8 NC "No connect", 15 NC "No connect", 17 NC "No connect", 18 NC "No connect"

## TPS76730QD
designator U?
Single Output Fast Transient Response LDO, 1 A, Fixed 3 V Output, 2.7 to 10 V Input, with Low IQ, 8-pin SOIC (D), -40 to 125 degC, Green (RoHS & no Sb/Br); Manufacturer: Texas Instruments; PartNumber: TPS76730QD; Accuracy(%): 2; Fixed Output Options(V): 3; Iout(Max)(A): 1; Iq(Typ)(mA): 0.08; SubFamily: Single Channel LDO; Vdo(Typ)(mV): 450; Vin(Max)(V): 10; Vin(Min)(V): 2.7; DatasheetVersion: SLVS208I; PackageVersion: 4040047-3/M; PackageReference: D8; PackageDescription: 8-Pin Plastic Small Outline, Body 4.9 x 3.9 mm, Pitch 1.27 mm; Supplier 1: Digi-Key; Supplier Part Number 1: 296-2737-5-ND; Supplier 2: Mouser; Supplier Part Number 2: 595-TPS76730QD; Eco-Plan: Green (RoHS & no Sb/Br); Vout Adj(Max)(V): 3; Vout Adj(Min)(V): 3; Mounting Technology: Surface Mount; Code_JEDEC: MS-012; ComponentLink1Description: Manufacturer URL; ComponentLink1URL: http://www.ti.com/; ComponentLink2Description: Datasheet; ComponentLink2URL: http://www.ti.com/general/docs/lit/getliterature.tsp?genericPartNumber=TPS76730&fileType=pdf; ComponentLink3Description: Package Specification; ComponentLink3URL: http://www.ti.com/litv/pdf/msoi002j
footprint TI-D8_N (SOIC, 8-Leads, Body 4.9x3.9mm, Pitch 1.27mm, IPC Medium Density)
footprint TI-D8_L (SOIC, 8-Leads, Body 4.9x3.9mm, Pitch 1.27mm, IPC High Density)
footprint TI-D8_M (SOIC, 8-Leads, Body 4.9x3.9mm, Pitch 1.27mm, IPC Low Density)
pins: 1 GND (power) "Regulator ground", 2 ~{EN} (in) "Enable input", 3 IN (power) "Input voltage", 4 IN (power) "Input voltage", 5 OUT (power) "Regulated output voltage", 6 OUT (power) "Regulated output voltage", 7 NC "No internal connection", 8 ~{RESET} (hiz) "R\E\S\E\T\ output"

## TPS76730QDG4
designator U?
Single Output Fast Transient Response LDO, 1 A, Fixed 3 V Output, 2.7 to 10 V Input, with Low IQ, 8-pin SOIC (D), -40 to 125 degC, Green (RoHS & no Sb/Br); Manufacturer: Texas Instruments; PartNumber: TPS76730QDG4; Accuracy(%): 2; Fixed Output Options(V): 3; Iout(Max)(A): 1; Iq(Typ)(mA): 0.08; SubFamily: Single Channel LDO; Vdo(Typ)(mV): 450; Vin(Max)(V): 10; Vin(Min)(V): 2.7; DatasheetVersion: SLVS208I; PackageVersion: 4040047-3/M; PackageReference: D8; PackageDescription: 8-Pin Plastic Small Outline, Body 4.9 x 3.9 mm, Pitch 1.27 mm; Supplier 1: Digi-Key; Supplier Part Number 1: TPS76730QDG4-ND; Supplier 2: Mouser; Supplier Part Number 2: 595-TPS76730QDG4; Eco-Plan: Green (RoHS & no Sb/Br); Vout Adj(Max)(V): 3; Vout Adj(Min)(V): 3; Mounting Technology: Surface Mount; Code_JEDEC: MS-012; ComponentLink1Description: Manufacturer URL; ComponentLink1URL: http://www.ti.com/; ComponentLink2Description: Datasheet; ComponentLink2URL: http://www.ti.com/general/docs/lit/getliterature.tsp?genericPartNumber=TPS76730&fileType=pdf; ComponentLink3Description: Package Specification; ComponentLink3URL: http://www.ti.com/litv/pdf/msoi002j
footprint TI-D8_N (SOIC, 8-Leads, Body 4.9x3.9mm, Pitch 1.27mm, IPC Medium Density)
footprint TI-D8_L (SOIC, 8-Leads, Body 4.9x3.9mm, Pitch 1.27mm, IPC High Density)
footprint TI-D8_M (SOIC, 8-Leads, Body 4.9x3.9mm, Pitch 1.27mm, IPC Low Density)
pins: 1 GND (power) "Regulator ground", 2 ~{EN} (in) "Enable input", 3 IN (power) "Input voltage", 4 IN (power) "Input voltage", 5 OUT (power) "Regulated output voltage", 6 OUT (power) "Regulated output voltage", 7 NC "No internal connection", 8 ~{RESET} (hiz) "R\E\S\E\T\ output"

## TPS76730QPWP
designator U?
Single Output Fast Transient Response LDO, 1 A, Fixed 3 V Output, 2.7 to 10 V Input, with Low IQ, 20-pin HTSSOP (PWP), -40 to 125 degC, Green (RoHS & no Sb/Br); Manufacturer: Texas Instruments; PartNumber: TPS76730QPWP; Accuracy(%): 2; Fixed Output Options(V): 3; Iout(Max)(A): 1; Iq(Typ)(mA): 0.08; SubFamily: Single Channel LDO; Vdo(Typ)(mV): 450; Vin(Max)(V): 10; Vin(Min)(V): 2.7; DatasheetVersion: SLVS208I; PackageVersion: 4073225-4/I; PackageReference: PWP20-2980X2000TP; PackageDescription: 20-Pin Plastic Small Outline, Body 4.4 x 6.5 mm, Pitch 0.65 mm; Supplier 1: Digi-Key; Supplier Part Number 1: 296-8082-5-ND; Supplier 2: Newark; Supplier Part Number 2: 77C1095; Supplier 3: Mouser; Supplier Part Number 3: 595-TPS76730QPWP; Eco-Plan: Green (RoHS & no Sb/Br); Vout Adj(Max)(V): 3; Vout Adj(Min)(V): 3; Mounting Technology: Surface Mount; Code_JEDEC: MO-153; ComponentLink1Description: Manufacturer URL; ComponentLink1URL: http://www.ti.com/; ComponentLink2Description: Datasheet; ComponentLink2URL: http://www.ti.com/general/docs/lit/getliterature.tsp?genericPartNumber=TPS76730&fileType=pdf; ComponentLink3Description: Package Specification; ComponentLink3URL: http://www.ti.com/litv/pdf/mhts001g
footprint TI-PWP20-2980X2000TP_N (SOP, 20-Leads, Body 6.5x4.4mm, Pitch 0.65mm, Thermal Pad 2.975x2 mm, IPC Medium Density)
footprint TI-PWP20-2980X2000TP_L (SOP, 20-Leads, Body 6.5x4.4mm, Pitch 0.65mm, Thermal Pad 2.975x2 mm, IPC High Density)
footprint TI-PWP20-2980X2000TP_M (SOP, 20-Leads, Body 6.5x4.4mm, Pitch 0.65mm, Thermal Pad 2.975x2 mm, IPC Low Density)
part A pins: 5 ~{EN} (in) "Enable input", 6 IN (power) "Input voltage", 7 IN (power) "Input voltage", 13 OUT (power) "Regulated output voltage", 14 OUT (power) "Regulated output voltage", 16 ~{RESET} (hiz) "R\E\S\E\T\ output."
part B pins: 1 GND/HSINK (power) "Ground/heatsink", 2 GND/HSINK (power) "Ground/heatsink", 3 GND (power) "Regulator ground", 9 GND/HSINK (power) "Ground/heatsink", 10 GND/HSINK (power) "Ground/heatsink", 11 GND/HSINK (power) "Ground/heatsink", 12 GND/HSINK (power) "Ground/heatsink", 19 GND/HSINK (power) "Ground/heatsink", 20 GND/HSINK (power) "Ground/heatsink", 21 EP "Exposed Thermal Pad"
part C pins: 4 NC "No connect", 8 NC "No connect", 15 NC "No connect", 17 NC "No connect", 18 NC "No connect"

## TPS76730QPWPG4
designator U?
Single Output Fast Transient Response LDO, 1 A, Fixed 3 V Output, 2.7 to 10 V Input, with Low IQ, 20-pin HTSSOP (PWP), -40 to 125 degC, Green (RoHS & no Sb/Br); Manufacturer: Texas Instruments; PartNumber: TPS76730QPWPG4; Accuracy(%): 2; Fixed Output Options(V): 3; Iout(Max)(A): 1; Iq(Typ)(mA): 0.08; SubFamily: Single Channel LDO; Vdo(Typ)(mV): 450; Vin(Max)(V): 10; Vin(Min)(V): 2.7; DatasheetVersion: SLVS208I; PackageVersion: 4073225-4/I; PackageReference: PWP20-2980X2000TP; PackageDescription: 20-Pin Plastic Small Outline, Body 4.4 x 6.5 mm, Pitch 0.65 mm; Supplier 1: Digi-Key; Supplier Part Number 1: TPS76730QPWPG4-ND; Supplier 2: Mouser; Supplier Part Number 2: 595-TPS76730QPWPG4; Eco-Plan: Green (RoHS & no Sb/Br); Vout Adj(Max)(V): 3; Vout Adj(Min)(V): 3; Mounting Technology: Surface Mount; Code_JEDEC: MO-153; ComponentLink1Description: Manufacturer URL; ComponentLink1URL: http://www.ti.com/; ComponentLink2Description: Datasheet; ComponentLink2URL: http://www.ti.com/general/docs/lit/getliterature.tsp?genericPartNumber=TPS76730&fileType=pdf; ComponentLink3Description: Package Specification; ComponentLink3URL: http://www.ti.com/litv/pdf/mhts001g
footprint TI-PWP20-2980X2000TP_N (SOP, 20-Leads, Body 6.5x4.4mm, Pitch 0.65mm, Thermal Pad 2.975x2 mm, IPC Medium Density)
footprint TI-PWP20-2980X2000TP_L (SOP, 20-Leads, Body 6.5x4.4mm, Pitch 0.65mm, Thermal Pad 2.975x2 mm, IPC High Density)
footprint TI-PWP20-2980X2000TP_M (SOP, 20-Leads, Body 6.5x4.4mm, Pitch 0.65mm, Thermal Pad 2.975x2 mm, IPC Low Density)
part A pins: 5 ~{EN} (in) "Enable input", 6 IN (power) "Input voltage", 7 IN (power) "Input voltage", 13 OUT (power) "Regulated output voltage", 14 OUT (power) "Regulated output voltage", 16 ~{RESET} (hiz) "R\E\S\E\T\ output."
part B pins: 1 GND/HSINK (power) "Ground/heatsink", 2 GND/HSINK (power) "Ground/heatsink", 3 GND (power) "Regulator ground", 9 GND/HSINK (power) "Ground/heatsink", 10 GND/HSINK (power) "Ground/heatsink", 11 GND/HSINK (power) "Ground/heatsink", 12 GND/HSINK (power) "Ground/heatsink", 19 GND/HSINK (power) "Ground/heatsink", 20 GND/HSINK (power) "Ground/heatsink", 21 EP "Exposed Thermal Pad"
part C pins: 4 NC "No connect", 8 NC "No connect", 15 NC "No connect", 17 NC "No connect", 18 NC "No connect"

## TPS76730QPWPR
designator U?
Single Output Fast Transient Response LDO, 1 A, Fixed 3 V Output, 2.7 to 10 V Input, with Low IQ, 20-pin HTSSOP (PWP), -40 to 125 degC, Green (RoHS & no Sb/Br); Manufacturer: Texas Instruments; PartNumber: TPS76730QPWPR; Accuracy(%): 2; Fixed Output Options(V): 3; Iout(Max)(A): 1; Iq(Typ)(mA): 0.08; SubFamily: Single Channel LDO; Vdo(Typ)(mV): 450; Vin(Max)(V): 10; Vin(Min)(V): 2.7; DatasheetVersion: SLVS208I; PackageVersion: 4073225-4/I; PackageReference: PWP20-2980X2000TP; PackageDescription: 20-Pin Plastic Small Outline, Body 4.4 x 6.5 mm, Pitch 0.65 mm; Supplier 1: Digi-Key; Supplier Part Number 1: TPS76730QPWPR-ND; Supplier 2: Mouser; Supplier Part Number 2: 595-TPS76730QPWPR; Eco-Plan: Green (RoHS & no Sb/Br); Vout Adj(Max)(V): 3; Vout Adj(Min)(V): 3; Mounting Technology: Surface Mount; Code_JEDEC: MO-153; ComponentLink1Description: Manufacturer URL; ComponentLink1URL: http://www.ti.com/; ComponentLink2Description: Datasheet; ComponentLink2URL: http://www.ti.com/general/docs/lit/getliterature.tsp?genericPartNumber=TPS76730&fileType=pdf; ComponentLink3Description: Package Specification; ComponentLink3URL: http://www.ti.com/litv/pdf/mhts001g
footprint TI-PWP20-2980X2000TP_N (SOP, 20-Leads, Body 6.5x4.4mm, Pitch 0.65mm, Thermal Pad 2.975x2 mm, IPC Medium Density)
footprint TI-PWP20-2980X2000TP_L (SOP, 20-Leads, Body 6.5x4.4mm, Pitch 0.65mm, Thermal Pad 2.975x2 mm, IPC High Density)
footprint TI-PWP20-2980X2000TP_M (SOP, 20-Leads, Body 6.5x4.4mm, Pitch 0.65mm, Thermal Pad 2.975x2 mm, IPC Low Density)
part A pins: 5 ~{EN} (in) "Enable input", 6 IN (power) "Input voltage", 7 IN (power) "Input voltage", 13 OUT (power) "Regulated output voltage", 14 OUT (power) "Regulated output voltage", 16 ~{RESET} (hiz) "R\E\S\E\T\ output."
part B pins: 1 GND/HSINK (power) "Ground/heatsink", 2 GND/HSINK (power) "Ground/heatsink", 3 GND (power) "Regulator ground", 9 GND/HSINK (power) "Ground/heatsink", 10 GND/HSINK (power) "Ground/heatsink", 11 GND/HSINK (power) "Ground/heatsink", 12 GND/HSINK (power) "Ground/heatsink", 19 GND/HSINK (power) "Ground/heatsink", 20 GND/HSINK (power) "Ground/heatsink", 21 EP "Exposed Thermal Pad"
part C pins: 4 NC "No connect", 8 NC "No connect", 15 NC "No connect", 17 NC "No connect", 18 NC "No connect"

## TPS76730QPWPRG4
designator U?
Single Output Fast Transient Response LDO, 1 A, Fixed 3 V Output, 2.7 to 10 V Input, with Low IQ, 20-pin HTSSOP (PWP), -40 to 125 degC, Green (RoHS & no Sb/Br); Manufacturer: Texas Instruments; PartNumber: TPS76730QPWPRG4; Accuracy(%): 2; Fixed Output Options(V): 3; Iout(Max)(A): 1; Iq(Typ)(mA): 0.08; SubFamily: Single Channel LDO; Vdo(Typ)(mV): 450; Vin(Max)(V): 10; Vin(Min)(V): 2.7; DatasheetVersion: SLVS208I; PackageVersion: 4073225-4/I; PackageReference: PWP20-2980X2000TP; PackageDescription: 20-Pin Plastic Small Outline, Body 4.4 x 6.5 mm, Pitch 0.65 mm; Supplier 1: Digi-Key; Supplier Part Number 1: TPS76730QPWPRG4-ND; Supplier 2: Mouser; Supplier Part Number 2: 595-TPS76730QPWPRG4; Eco-Plan: Green (RoHS & no Sb/Br); Vout Adj(Max)(V): 3; Vout Adj(Min)(V): 3; Mounting Technology: Surface Mount; Code_JEDEC: MO-153; ComponentLink1Description: Manufacturer URL; ComponentLink1URL: http://www.ti.com/; ComponentLink2Description: Datasheet; ComponentLink2URL: http://www.ti.com/general/docs/lit/getliterature.tsp?genericPartNumber=TPS76730&fileType=pdf; ComponentLink3Description: Package Specification; ComponentLink3URL: http://www.ti.com/litv/pdf/mhts001g
footprint TI-PWP20-2980X2000TP_N (SOP, 20-Leads, Body 6.5x4.4mm, Pitch 0.65mm, Thermal Pad 2.975x2 mm, IPC Medium Density)
footprint TI-PWP20-2980X2000TP_L (SOP, 20-Leads, Body 6.5x4.4mm, Pitch 0.65mm, Thermal Pad 2.975x2 mm, IPC High Density)
footprint TI-PWP20-2980X2000TP_M (SOP, 20-Leads, Body 6.5x4.4mm, Pitch 0.65mm, Thermal Pad 2.975x2 mm, IPC Low Density)
part A pins: 5 ~{EN} (in) "Enable input", 6 IN (power) "Input voltage", 7 IN (power) "Input voltage", 13 OUT (power) "Regulated output voltage", 14 OUT (power) "Regulated output voltage", 16 ~{RESET} (hiz) "R\E\S\E\T\ output."
part B pins: 1 GND/HSINK (power) "Ground/heatsink", 2 GND/HSINK (power) "Ground/heatsink", 3 GND (power) "Regulator ground", 9 GND/HSINK (power) "Ground/heatsink", 10 GND/HSINK (power) "Ground/heatsink", 11 GND/HSINK (power) "Ground/heatsink", 12 GND/HSINK (power) "Ground/heatsink", 19 GND/HSINK (power) "Ground/heatsink", 20 GND/HSINK (power) "Ground/heatsink", 21 EP "Exposed Thermal Pad"
part C pins: 4 NC "No connect", 8 NC "No connect", 15 NC "No connect", 17 NC "No connect", 18 NC "No connect"

## TPS76733QD
designator U?
Single Output Fast Transient Response LDO, 1 A, Fixed 3.3 V Output, 2.7 to 10 V Input, with Low IQ, 8-pin SOIC (D), -40 to 125 degC, Green (RoHS & no Sb/Br); Manufacturer: Texas Instruments; PartNumber: TPS76733QD; Accuracy(%): 2; Fixed Output Options(V): 3.3; Iout(Max)(A): 1; Iq(Typ)(mA): 0.08; SubFamily: Single Channel LDO; Vdo(Typ)(mV): 350; Vin(Max)(V): 10; Vin(Min)(V): 2.7; DatasheetVersion: SLVS208I; PackageVersion: 4040047-3/M; PackageReference: D8; PackageDescription: 8-Pin Plastic Small Outline, Body 4.9 x 3.9 mm, Pitch 1.27 mm; Supplier 1: Digi-Key; Supplier Part Number 1: 296-2738-5-ND; Supplier 2: Farnell; Supplier Part Number 2: 8461457; Supplier 3: Newark; Supplier Part Number 3: 77C1097; Supplier 4: Mouser; Supplier Part Number 4: 595-TPS76733QD; Eco-Plan: Green (RoHS & no Sb/Br); Vout Adj(Max)(V): 3.3; Vout Adj(Min)(V): 3.3; Mounting Technology: Surface Mount; Code_JEDEC: MS-012; ComponentLink1Description: Manufacturer URL; ComponentLink1URL: http://www.ti.com/; ComponentLink2Description: Datasheet; ComponentLink2URL: http://www.ti.com/general/docs/lit/getliterature.tsp?genericPartNumber=TPS76733&fileType=pdf; ComponentLink3Description: Package Specification; ComponentLink3URL: http://www.ti.com/litv/pdf/msoi002j
footprint TI-D8_N (SOIC, 8-Leads, Body 4.9x3.9mm, Pitch 1.27mm, IPC Medium Density)
footprint TI-D8_L (SOIC, 8-Leads, Body 4.9x3.9mm, Pitch 1.27mm, IPC High Density)
footprint TI-D8_M (SOIC, 8-Leads, Body 4.9x3.9mm, Pitch 1.27mm, IPC Low Density)
pins: 1 GND (power) "Regulator ground", 2 ~{EN} (in) "Enable input", 3 IN (power) "Input voltage", 4 IN (power) "Input voltage", 5 OUT (power) "Regulated output voltage", 6 OUT (power) "Regulated output voltage", 7 NC "No internal connection", 8 ~{RESET} (hiz) "R\E\S\E\T\ output"

## TPS76733QDG4
designator U?
Single Output Fast Transient Response LDO, 1 A, Fixed 3.3 V Output, 2.7 to 10 V Input, with Low IQ, 8-pin SOIC (D), -40 to 125 degC, Green (RoHS & no Sb/Br); Manufacturer: Texas Instruments; PartNumber: TPS76733QDG4; Accuracy(%): 2; Fixed Output Options(V): 3.3; Iout(Max)(A): 1; Iq(Typ)(mA): 0.08; SubFamily: Single Channel LDO; Vdo(Typ)(mV): 350; Vin(Max)(V): 10; Vin(Min)(V): 2.7; DatasheetVersion: SLVS208I; PackageVersion: 4040047-3/M; PackageReference: D8; PackageDescription: 8-Pin Plastic Small Outline, Body 4.9 x 3.9 mm, Pitch 1.27 mm; Supplier 1: Digi-Key; Supplier Part Number 1: TPS76733QDG4-ND; Supplier 2: Mouser; Supplier Part Number 2: 595-TPS76733QDG4; Eco-Plan: Green (RoHS & no Sb/Br); Vout Adj(Max)(V): 3.3; Vout Adj(Min)(V): 3.3; Mounting Technology: Surface Mount; Code_JEDEC: MS-012; ComponentLink1Description: Manufacturer URL; ComponentLink1URL: http://www.ti.com/; ComponentLink2Description: Datasheet; ComponentLink2URL: http://www.ti.com/general/docs/lit/getliterature.tsp?genericPartNumber=TPS76733&fileType=pdf; ComponentLink3Description: Package Specification; ComponentLink3URL: http://www.ti.com/litv/pdf/msoi002j
footprint TI-D8_N (SOIC, 8-Leads, Body 4.9x3.9mm, Pitch 1.27mm, IPC Medium Density)
footprint TI-D8_L (SOIC, 8-Leads, Body 4.9x3.9mm, Pitch 1.27mm, IPC High Density)
footprint TI-D8_M (SOIC, 8-Leads, Body 4.9x3.9mm, Pitch 1.27mm, IPC Low Density)
pins: 1 GND (power) "Regulator ground", 2 ~{EN} (in) "Enable input", 3 IN (power) "Input voltage", 4 IN (power) "Input voltage", 5 OUT (power) "Regulated output voltage", 6 OUT (power) "Regulated output voltage", 7 NC "No internal connection", 8 ~{RESET} (hiz) "R\E\S\E\T\ output"

## TPS76733QDR
designator U?
Single Output Fast Transient Response LDO, 1 A, Fixed 3.3 V Output, 2.7 to 10 V Input, with Low IQ, 8-pin SOIC (D), -40 to 125 degC, Green (RoHS & no Sb/Br); Manufacturer: Texas Instruments; PartNumber: TPS76733QDR; Accuracy(%): 2; Fixed Output Options(V): 3.3; Iout(Max)(A): 1; Iq(Typ)(mA): 0.08; SubFamily: Single Channel LDO; Vdo(Typ)(mV): 350; Vin(Max)(V): 10; Vin(Min)(V): 2.7; DatasheetVersion: SLVS208I; PackageVersion: 4040047-3/M; PackageReference: D8; PackageDescription: 8-Pin Plastic Small Outline, Body 4.9 x 3.9 mm, Pitch 1.27 mm; Supplier 1: Digi-Key; Supplier Part Number 1: TPS76733QDR-ND; Supplier 2: Mouser; Supplier Part Number 2: 595-TPS76733QDR; Eco-Plan: Green (RoHS & no Sb/Br); Vout Adj(Max)(V): 3.3; Vout Adj(Min)(V): 3.3; Mounting Technology: Surface Mount; Code_JEDEC: MS-012; ComponentLink1Description: Manufacturer URL; ComponentLink1URL: http://www.ti.com/; ComponentLink2Description: Datasheet; ComponentLink2URL: http://www.ti.com/general/docs/lit/getliterature.tsp?genericPartNumber=TPS76733&fileType=pdf; ComponentLink3Description: Package Specification; ComponentLink3URL: http://www.ti.com/litv/pdf/msoi002j
footprint TI-D8_N (SOIC, 8-Leads, Body 4.9x3.9mm, Pitch 1.27mm, IPC Medium Density)
footprint TI-D8_L (SOIC, 8-Leads, Body 4.9x3.9mm, Pitch 1.27mm, IPC High Density)
footprint TI-D8_M (SOIC, 8-Leads, Body 4.9x3.9mm, Pitch 1.27mm, IPC Low Density)
pins: 1 GND (power) "Regulator ground", 2 ~{EN} (in) "Enable input", 3 IN (power) "Input voltage", 4 IN (power) "Input voltage", 5 OUT (power) "Regulated output voltage", 6 OUT (power) "Regulated output voltage", 7 NC "No internal connection", 8 ~{RESET} (hiz) "R\E\S\E\T\ output"